# EAGLE library part SP3012-04UTG (library SP3012 TVS Diode Array)
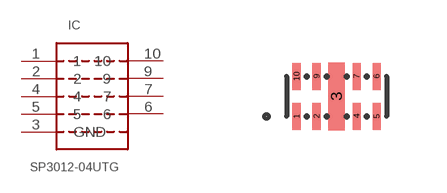
[diagram p0: symbol with the pads of μDFN-10; footprint μDFN-10]

Designator prefix IC

## SP3012-04UTG  [μDFN-10]
1  1  in
2  2  in
3  GND  pwr
4  4  in
5  5  in
6  6  out
7  7  out
9  9  out
10  10  out

## Footprint μDFN-10 (pad centres in mm)
smd 0.2 x 0.675: 1 -1,-0.5; 2 -0.5,-0.5; 4 0.5,-0.5; 5 1,-0.5; 6 1,0.5; 7 0.5,0.5; 9 -0.5,0.5; 10 -1,0.5
smd 0.4 x 1.7: 3 0,0